# Altium schematic symbol library BJTs.SchLib: 9 symbols
Pins are listed as number, name and electrical type; pins without a type are passive.

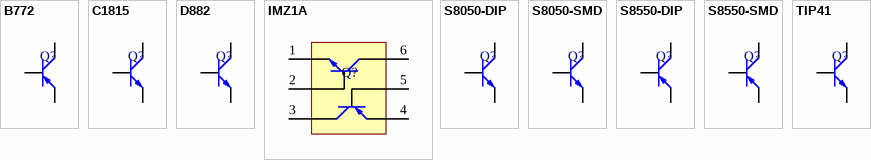
[diagram p0: symbols B772 to TIP41]

## B772
designator Q?  (value not drawn)
Transistor PNP 3A
footprint SOT-89
footprint TO-126
pins: 1 E, 2 C, 3 B

## C1815
designator Q?  (value not drawn)
Transistor NPN 150mA
footprint SOT-23
pins: 1 B, 2 E, 3 C

## D882
designator Q?  (value not drawn)
Transistor NPN 3A
footprint SOT-89
footprint TO-126
pins: 1 E, 2 C, 3 B

## IMZ1A
designator Q?  (value not drawn)
Transistor NPN+PNP 150mA
footprint SOT-23-6
pins: 1, 2, 3, 4, 5, 6

## S8050-DIP
designator Q?, comment S8050  (value not drawn)
Transistor NPN 500mA
footprint TO-92
pins: 1 E, 2 B, 3 C

## S8050-SMD
designator Q?, comment S8050 SMD  (value not drawn)
Transistor NPN 500mA
footprint SOT-23
pins: 1 B, 2 E, 3 C

## S8550-DIP
designator Q?, comment S8550 DIP  (value not drawn)
Transistor PNP 500mA
footprint TO-92
pins: 1 E, 2 B, 3 C

## S8550-SMD
designator Q?, comment S8550 SMD  (value not drawn)
Transistor PNP 500mA
footprint SOT-23
pins: 1 B, 2 E, 3 C

## TIP41
designator Q?  (value not drawn)
Transistor NPN 6A
footprint TO-220
pins: 1 B, 2 C, 3 E